# Altium footprint library TIDA-00555_E2.PcbLib: 37 footprints (part 2 of 3)
Each footprint in its own frame and in the unit in brackets; x right, y up, seen from the top. Pads: shape width x height; smd on the part's side, far side on the other; paste and mask are expansions set on the pad; w line width, h text height; cw(c..) or ccw(c..) is an arc to the next point about the centre after c.
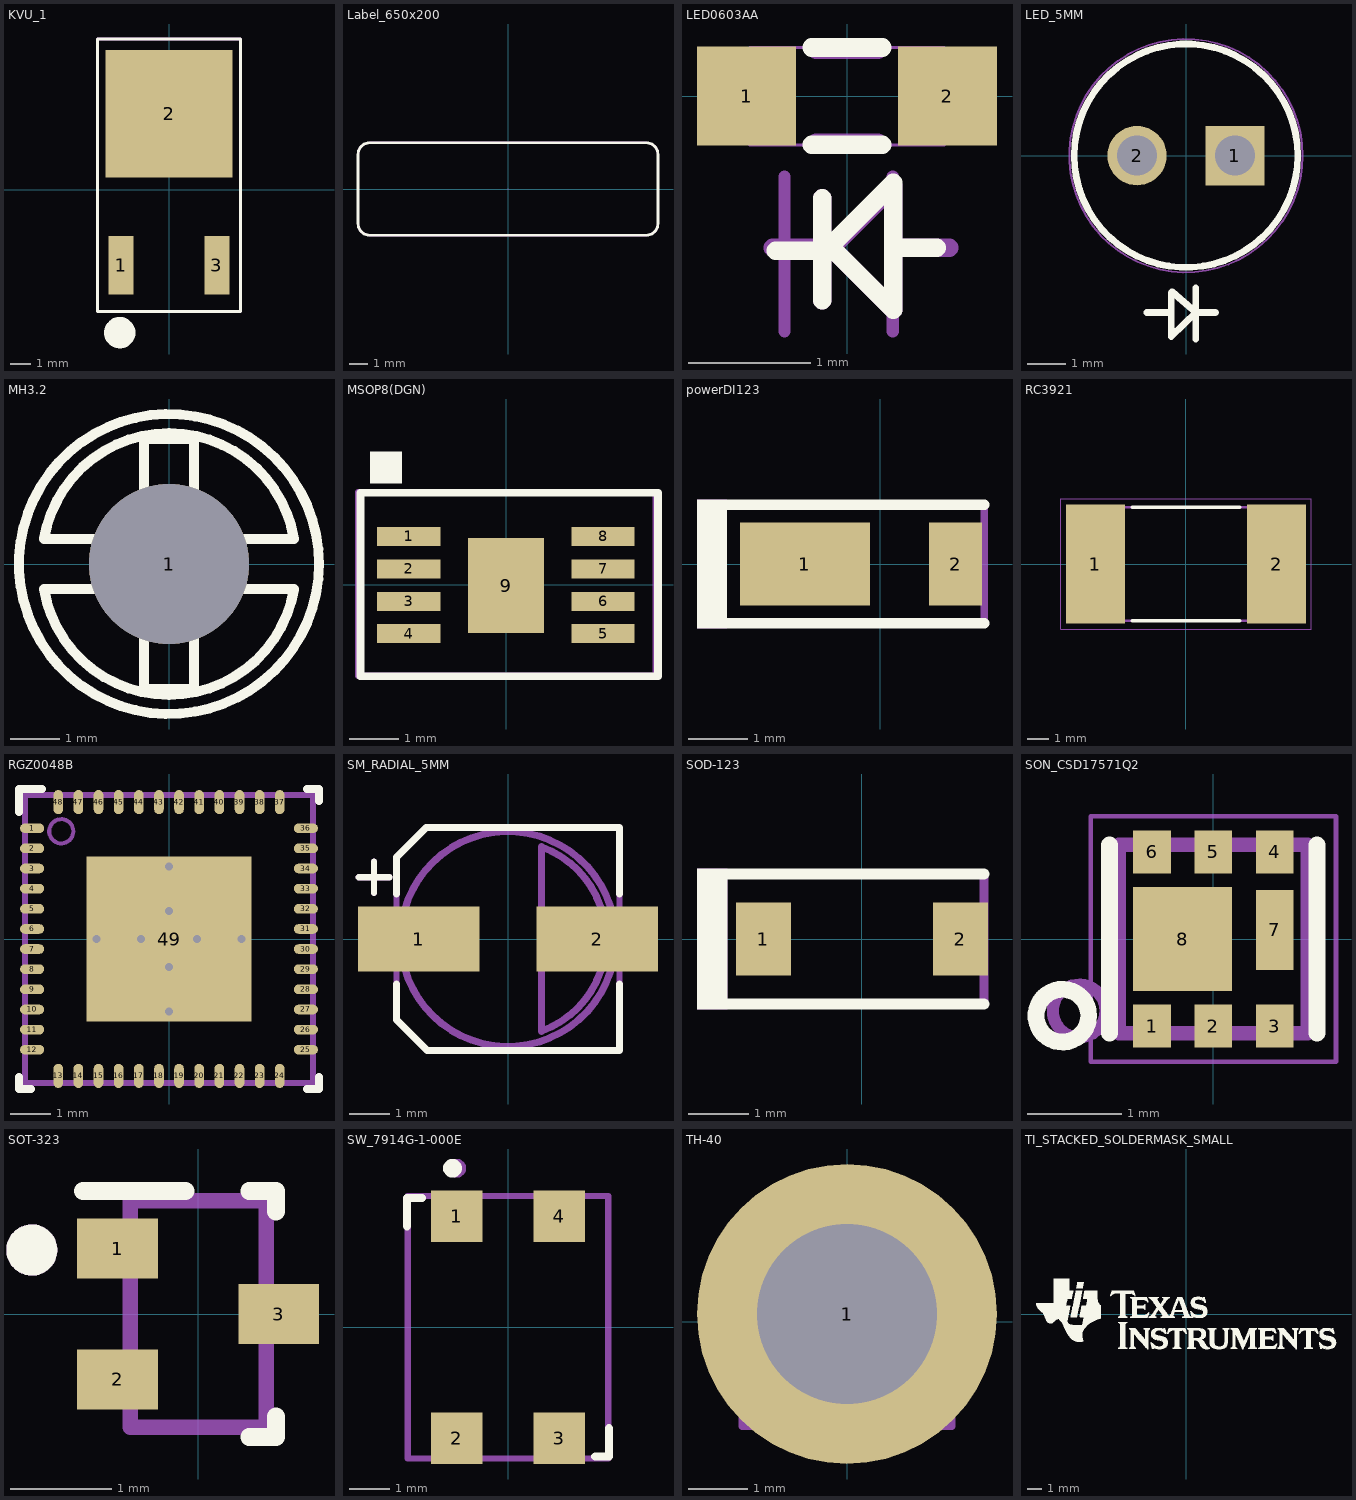
[diagram p1: the footprints below, top view; thin cyan lines are the x and y axes]

## KVU_1 [mm]
height 2.39
pads (3):
  rect 1.2x2.8 smd mask+0.102: 1(-2.29,-3.635) 3(2.29,-3.635)
  rect 6.096x6.096 smd mask+0.102: 2(0,3.635)
Top Overlay:
  circle w0.889: c-2.362,-6.858 r0.305
  lines w0.152: -3.429,-5.841 3.429,-5.841 3.429,7.216 -3.429,7.216 -3.429,-5.841
Mechanical 5:
  lines w0.152: -3.429,-5.841 -3.429,7.216 3.429,7.216 3.429,-5.841 -3.429,-5.841
  text ".Designator" at 0.864,1.321 h0.76

## Label_650x200 [mil] "Thermal Transfer Label"
height 1
pads (1):
  round 1 on Mech13: 0(0,0)
Top Overlay:
  lines w6: -325,-75 ccw(c-300,-75) -300,-100 300,-100 ccw(c300,-75) 325,-75 325,75 ccw(c300,75) 300,100 -300,100 ccw(c-300,75) -325,75 -325,-75
Mechanical 5:
  lines w5: -325,-75 ccw(c-300,-75) -300,-100 300,-100 ccw(c300,-75) 325,-75 325,75 ccw(c300,75) 300,100 -300,100 ccw(c-300,75) -325,75 -325,-75
  text ".Designator" at 65,25 h30
3D body: height 1, standoff 0, extent -325.51,-100.51 325.51,100.51

## LED0603AA [mil]
height 35.43
pads (2):
  rect 32x32 smd mask+4: 1(-32.48,0) 2(32.48,0)
Top Overlay:
  lines w6: -23,-50 -4,-50 15,-69 15,-28 -7,-50 ; -11.42,-15.75 11.42,-15.75 ; -11.42,15.75 11.42,15.75 ; -8,-66 -8,-33 ; 15,-49 29,-49
Mechanical 5:
  lines w6: -24,-49 -5,-49 ; -10,-15 10,-15 ; -10,15 10,15 ; -8,-66 -8,-33 ; 17,-49 33,-49 ; -5,-49 15,-29 15,-69 -5,-49
  text ".Designator" at 30,25 h30
Mechanical 15:
  lines w1: -31.5,-15.75 -31.5,15.75 31.5,15.75 31.5,-15.75 -31.5,-15.75
  lines w3.94: -20.21,-75.96 -20.21,-25.96 ; 14.79,-75.96 14.79,-25.96

## LED_5MM [mm] "LED, 5MM, RED, TH"
height 9
pads (2):
  rect 1.54x1.54 / inner round 1.54 / far side rect 1.54x1.54 hole 1.04: 1(1.27,0)
  round 1.54 hole 1.04: 2(-1.27,0)
Top Overlay:
  circle w0.178: c0,0 r2.9
  lines w0.178: -1.019,-4.064 -0.381,-4.064 ; -0.381,-4.696 -0.381,-3.556 ; -0.375,-4.677 0.254,-4.064 -0.363,-3.529 ; 0.254,-4.756 0.254,-3.429 ; 0.266,-4.064 0.762,-4.064
Bottom Overlay:
  lines w0.178: -2.899,0.001 ccw(c0.001,0.001) -2.51,-1.449 ; -2.51,1.451 cw(c0.001,0.001) -1.449,2.513 ; -1.449,-2.51 ccw(c0.001,0.001) 0.001,-2.899 ; 0.001,2.901 cw(c0.001,0.001) 1.451,2.513 ; 1.451,-2.51 ccw(c0.001,0.001) 2.513,-1.449 ; 2.513,1.451 cw(c0.001,0.001) 2.901,0.001
Mechanical 5:
  circle w0.127: c0,0 r2.9
  lines w0.127: -1.019,-4.064 -0.381,-4.064 ; -0.381,-4.696 -0.381,-3.529 ; -0.375,-4.677 0.254,-4.064 -0.363,-3.529 ; 0.254,-4.756 0.254,-3.556 ; 0.266,-4.064 0.762,-4.064
  text ".Designator" at -0.432,0.914 h0.76
Mechanical 15:
  circle w0.05: c0,0 r3.027
3D body: height 9, standoff 0, extent -2.9,-2.9 2.9,2.9

## MH3.2 [mil]
height 80
pads (1):
  round 128 / inner round 142 / far side round 128 hole 128 unplated mask+10: 1(0,0)
Top Overlay:
  circle w8: c0,0 r120
  lines w8: -100,-20 -20,-20 -20,-100 20,-100 20,-20 100,-20 ; -100.02,-19.91 ccw(c0,-3.35) 99.99,-20.08 ; -100,20 -20,20 -20,100 20,100 20,20 100,20 ; -99.99,20.09 cw(c0,3.36) 100.02,19.92

## MSOP8(DGN) [mil]
pads (9):
  rect 50x15 smd mask+3: 1(-77,38) 2(-77,12.4) 3(-77,-13.2) 4(-77,-38.8) 5(76.6,-38.8) 6(76.6,-13.2) 7(76.6,12.4) 8(76.6,38)
  rect 60x75 smd: 9(0,-0.8)
Top Overlay:
  region: -107.5,105 -82.5,105 -82.5,80 -107.5,80
  lines w6: -115,-72.5 120,-72.5 120,72.5 -115,72.5 -115,-72.5
Mechanical 5:
  lines w5: -117,-72 118,-72 118,73 -117,73 -117,-72
  text "*" at -105,30 h30
  text ".Designator" at 13,-37.2 h30

## powerDI123 [mm] "Diodes Inc recommended land pattern, document number DS30628 Rev. 6-2"
height 1
pads (2):
  rect 2.2x1.4 smd: 1(-1.275,0)
  rect 0.9x1.4 smd: 2(1.275,0)
Top Overlay:
  rectangle: -3.099,-1.092 -2.591,1.092
  lines w0.178: -2.946,-1.003 1.759,-1.003 ; -2.946,1.003 1.759,1.003
Mechanical 5:
  rectangle: -3.099,-1.092 -2.591,1.092
  lines w0.127: -2.946,-1.003 1.759,-1.003 1.759,1.003 -2.946,1.003
  text ".Designator" at 0.254,0.254 h0.76
3D body: height 1, standoff 0, extent -2.375,-0.965 1.525,0.965

## RC3921 [mm] "RESISTOR, SMD, 3921"
height 0.93
pads (2):
  rect 2.7x5.45 smd mask+0.102: 1(-4.15,0) 2(4.15,0)
Top Overlay:
  lines w0.178: -2.45,-2.6 2.45,-2.6 ; -2.45,2.6 2.45,2.6
Mechanical 5:
  lines w0.127: -5,-2.6 5,-2.6 5,2.6 -5,2.6 -5,-2.6
  text ".Designator" at -0.66,-0.381 h0.76
Mechanical 15:
  lines w0.05: -5.75,-3 -5.75,3 5.75,3 5.75,-3 -5.75,-3
3D body: height 0.93, standoff 0, extent -5,-2.6 5,2.6

## RGZ0048B [mm] "QFN, 48-Leads, Body 7x7mm, Pitch 0.5mm, Thermal Pad 5.15x5.15mm, TI Recommended"
height 1
pads (49):
  oval 0.6x0.24 smd mask+0.076: 1(-3.4,2.75) 2(-3.4,2.25) 3(-3.4,1.75) 4(-3.4,1.25) 5(-3.4,0.75) 6(-3.4,0.25) 7(-3.4,-0.25) 8(-3.4,-0.75) 9(-3.4,-1.25) 10(-3.4,-1.75) 11(-3.4,-2.25) 12(-3.4,-2.75) 25(3.4,-2.75) 26(3.4,-2.25) 27(3.4,-1.75) 28(3.4,-1.25) 29(3.4,-0.75) 30(3.4,-0.25) 31(3.4,0.25) 32(3.4,0.75) 33(3.4,1.25) 34(3.4,1.75) 35(3.4,2.25) 36(3.4,2.75)
  oval 0.24x0.6 smd mask+0.076: 13(-2.75,-3.4) 14(-2.25,-3.4) 15(-1.75,-3.4) 16(-1.25,-3.4) 17(-0.75,-3.4) 18(-0.25,-3.4) 19(0.25,-3.4) 20(0.75,-3.4) 21(1.25,-3.4) 22(1.75,-3.4) 23(2.25,-3.4) 24(2.75,-3.4) 37(2.75,3.4) 38(2.25,3.4) 39(1.75,3.4) 40(1.25,3.4) 41(0.75,3.4) 42(0.25,3.4) 43(-0.25,3.4) 44(-0.75,3.4) 45(-1.25,3.4) 46(-1.75,3.4) 47(-2.25,3.4) 48(-2.75,3.4)
  rect 4.1x4.1 smd paste-2.575 mask+0.102: 49(0,0)
via 1.8,0 diameter 0.5 hole 0.2
via 0.7,0 diameter 0.5 hole 0.2
via 0,-1.8 diameter 0.5 hole 0.2
via 0,-0.7 diameter 0.5 hole 0.2
via -1.8,0 diameter 0.5 hole 0.2
via -0.7,0 diameter 0.5 hole 0.2
via 0,0.7 diameter 0.5 hole 0.2
via 0,1.8 diameter 0.5 hole 0.2
Top Overlay:
  lines w0.2: -3.725,-3.425 -3.725,-3.725 -3.425,-3.725 ; -3.725,3.15 -3.725,3.725 -3.15,3.725 ; 3.425,-3.725 3.725,-3.725 3.725,-3.425 ; 3.425,3.725 3.725,3.725 3.725,3.425
Top Paste:
  rectangle: 0.1,0.1 1.835,1.835
  region: -0.1,1.835 -1.835,1.835 -1.835,0.1 -0.1,0.1
  region: -0.1,-0.1 -1.835,-0.1 -1.835,-1.835 -0.1,-1.835
  rectangle: 0.1,-1.835 1.835,-0.1
Mechanical 5:
  circle w0.1: c-2.675,2.675 r0.3
  lines w0.152: -3.575,-3.575 3.575,-3.575 3.575,3.575 -3.575,3.575 -3.575,-3.575
  text ".Designator" at 0.436,-0.61 h0.76
3D body: height 1, standoff 0, extent -3.575,-3.575 3.575,3.575
3D body: height 1.01, standoff 0.5, extent -2.98,2.37 -2.37,2.98

## SM_RADIAL_5MM [mm] "Nichicon 5x5.8"
height 6.1
pads (2):
  rect 3x1.6 smd mask+0.102: 1(-2.2,0) 2(2.2,0)
Top Overlay:
  lines w0.152: -3.683,1.524 -2.921,1.524 ; -3.302,1.143 -3.302,1.905
  lines w0.178: -2.75,-1.108 -2.75,-1.992 -1.992,-2.75 2.75,-2.75 2.75,-1.108 ; -2.75,1.108 -2.75,2.019 -2.019,2.75 2.75,2.75 2.75,1.118
Mechanical 5:
  lines w0.152: -3.683,1.524 -2.921,1.524 ; -3.302,1.143 -3.302,1.905 ; -2.75,-1.992 -1.992,-2.75 2.75,-2.75 2.75,2.75 -2.019,2.75 -2.75,2.019 -2.75,-1.992
  text ".Designator" at 0.432,-0.864 h0.76
Mechanical 13:
  circle w0.178: c0,0 r2.65
  lines w0.178: 0.827,-2.273 ccw(c0,0) 0.827,2.273 0.827,-2.273
3D body: height 1, standoff 0, extent -2.751,-2.751 2.751,2.751
3D body: height 6.1, standoff 6, extent 0.827,-2.277 2.432,2.277
3D body: height 6.1, standoff 1, extent -2.658,-2.658 2.658,2.658

## SOD-123 [mm] "On Semi recommended land pattern"
height 1.35
pads (2):
  rect 0.915x1.22 smd mask+0.102: 1(-1.637,0) 2(1.637,0)
Top Overlay:
  rectangle: -2.741,-1.168 -2.233,1.168
  lines w0.178: -2.413,-1.079 2.032,-1.079 ; -2.413,1.079 2.032,1.079
Mechanical 5:
  rectangle: -2.741,-1.168 -2.233,1.168
  lines w0.152: -2.413,-1.079 2.032,-1.079 2.032,1.079 -2.413,1.079
  text ".Designator" at -1.016,-0.381 h0.76
3D body: height 1.35, standoff 0, extent -1.932,-0.9 1.932,0.9

## SON_CSD17571Q2 [mm] "SON, MOSFET, N-CH, 30V, 22A, SON 2X2 MM"
height 0.85
pads (8):
  rect 0.4x0.455 smd mask+0.076: 1(-0.65,-0.923) 2(0,-0.923) 3(0.65,-0.923) 4(0.65,0.923) 5(0,0.923) 6(-0.65,0.923)
  rect 0.4x0.85 smd mask+0.076: 7(0.65,0.096)
  rect 1.05x1.1 smd mask+0.076: 8(-0.325,0)
Top Overlay:
  circle w0.178: c-1.6,-0.813 r0.279
  lines w0.178: -1.1,-1 -1.1,1 ; 1.1,-1 1.1,1
  text ".Designator" at 0.864,-1.702 h1.02
Mechanical 5:
  circle w0.127: c-1.422,-0.762 r0.279
  lines w0.152: -1,-1 1,-1 1,1 -1,1 -1,-1
  text ".Designator" at 0.61,0.432 h0.76
Mechanical 15:
  lines w0.05: -1.3,-1.3 -1.3,1.3 1.3,1.3 1.3,-1.3 -1.3,-1.3
3D body: height 0.85, standoff 0, extent -1,-1 1,0.975

## SOT-323 [mm] "Zetex recommended land pattern.  March 2007"
height 1.1
pads (3):
  rect 0.8x0.6 smd: 1(-0.8,0.65) 2(-0.8,-0.65) 3(0.8,0)
Top Overlay:
  circle w0.254: c-1.651,0.635 r0.127
  lines w0.178: -1.143,1.219 -0.127,1.219 ; 0.508,-1.219 0.775,-1.219 0.775,-1.016 ; 0.508,1.219 0.775,1.219 0.775,1.016
Mechanical 5:
  circle w0.254: c-1.651,0.635 r0.127
  lines w0.152: -1.125,-0.8 -0.975,-0.8 -0.935,-0.8 -0.884,-0.8 -0.725,-0.8 -0.675,-0.8 -0.675,-0.5 -0.725,-0.5 -0.884,-0.5 -0.935,-0.5 -0.975,-0.5 -1.125,-0.5 -1.125,-0.8 ; -1.125,0.5 -0.975,0.5 -0.935,0.5 -0.884,0.5 -0.725,0.5 -0.675,0.5 -0.675,0.8 -0.725,0.8 -0.884,0.8 -0.935,0.8 -0.975,0.8 -1.125,0.8 -1.125,0.5 ; -0.675,-1.125 0.675,-1.125 0.675,1.125 -0.675,1.125 -0.675,-1.125 ; 0.675,-0.15 0.675,0.15 0.725,0.15 0.884,0.15 0.935,0.15 0.975,0.15 1.125,0.15 1.125,-0.15 0.975,-0.15 0.935,-0.15 0.884,-0.15 0.725,-0.15 0.675,-0.15
  text ".Designator" at 0.66,2.489 h0.76
3D body: height 1.13, standoff 0.02, extent -1.125,-1.125 1.125,1.125

## SW_7914G-1-000E [mm] "BOURNS"
height 4.49
pads (4):
  rect 1.27x1.27 smd mask+0.102: 1(-1.27,2.75) 2(-1.27,-2.75) 3(1.27,-2.75) 4(1.27,2.75)
Top Overlay:
  circle w0.254: c-1.375,3.937 r0.105
  lines w0.2: -2.5,2.5 -2.5,3.2 -2.134,3.2 ; 2.159,-3.2 2.5,-3.2 2.5,-2.5
Mechanical 5:
  circle w0.254: c-1.27,3.937 r0.105
  lines w0.152: -2.48,-3.25 2.48,-3.25 2.48,3.25 -2.48,3.25 -2.48,-3.25
  text ".Designator" at -0.508,-0.381 h0.76
3D body: height 2.54, standoff 0, extent -2.249,-2.499 2.249,2.499
3D body: height 4.49, standoff 2, extent -1.21,-1.21 1.21,1.21

## TH-40 [mil]
height 57.09
pads (1):
  round 200 hole 120: 1(0,5)
Mechanical 5:
  lines w5: -70,-70 70,-70 70,70 -70,70 -70,-70
  text ".Designator" at -40,-15 h30

## TI_STACKED_SOLDERMASK_SMALL [mm]
Top Overlay:
  drawing of 18 lines, arcs and shapes, not listed